# Altium footprint library 1EDC60H12AH.PcbLib: 1 footprints
Each footprint in its own frame and in the unit in brackets; x right, y up, seen from the top. Pads: shape width x height; smd on the part's side, far side on the other; paste and mask are expansions set on the pad; w line width, h text height; cw(c..) or ccw(c..) is an arc to the next point about the centre after c.
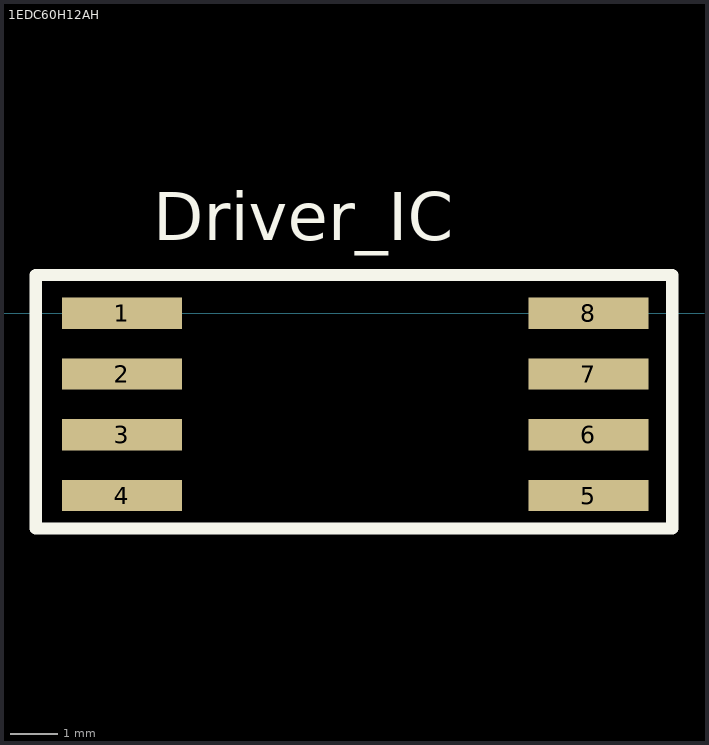
[diagram p0: the footprint, top view; thin cyan lines are the x and y axes]

## 1EDC60H12AH [mm]
pads (8):
  rect 2.5x0.65 smd: 1(3,0) 2(3,-1.27) 3(3,-2.54) 4(3,-3.81) 5(12.75,-3.81) 6(12.75,-2.54) 7(12.75,-1.27) 8(12.75,0)
Top Overlay:
  lines w0.254: 1.2,-4.5 1.2,0.8 14.5,0.8 14.5,-4.5 1.2,-4.5
  text "Driver_IC" at 3.654,1.521 h1